# EAGLE library part INA826 (library smd-footprints)
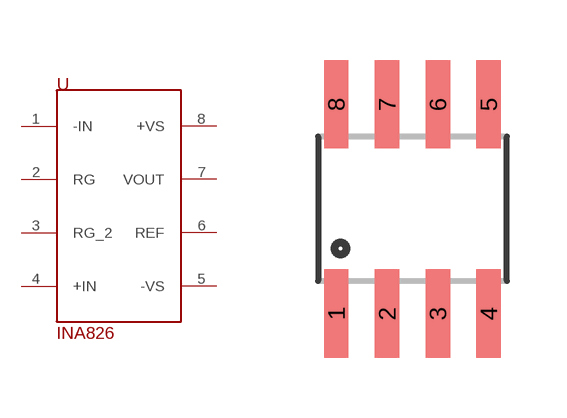
[diagram p0: symbol with the pads of SOIC-8; footprint SOIC-8]

Designator prefix U

## INA826SOIC-08  [SOIC-8]
1  -IN
2  RG
3  RG_2
4  +IN
5  -VS
6  REF
7  VOUT
8  +VS

## Footprint SOIC-8 (pad centres in mm)
smd 0.61 x 2.21: 1 -1.905,-2.616; 2 -0.635,-2.616; 3 0.635,-2.616; 4 1.905,-2.616; 5 1.905,2.616; 6 0.635,2.616; 7 -0.635,2.616; 8 -1.905,2.616